# Altium schematic symbol library Transistors.SchLib: 16 symbols
Pins are listed as number, name and electrical type; pins without a type are passive.

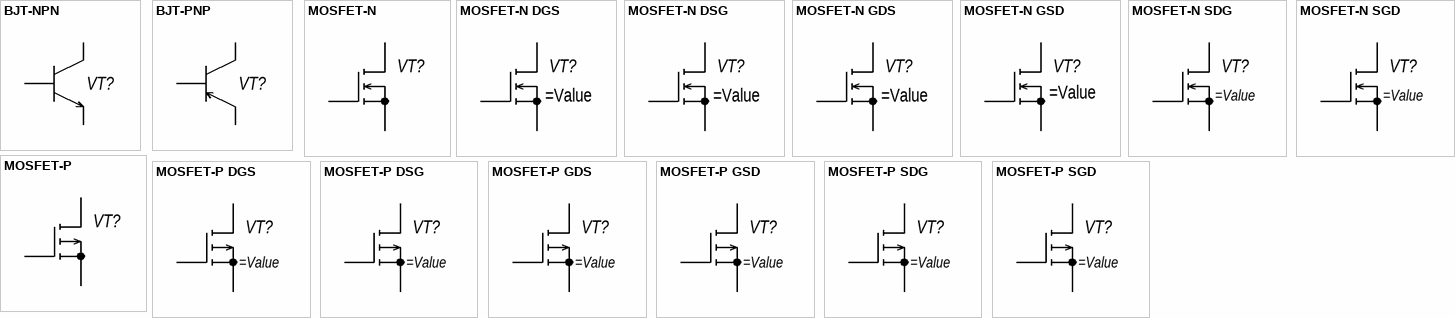
[diagram p0: symbols BJT-NPN to MOSFET-P SGD]

## BJT-NPN
designator VT?  (value not drawn)
pins: 1 B "База", 2 C "Коллектор", 3 E "Эмиттер"

## BJT-PNP
designator VT?  (value not drawn)
pins: 1 B "База", 2 C "Коллектор", 3 E "Эмиттер"

## MOSFET-N
designator VT?  (value not drawn)
pins: 1 G "Затвор", 2 D "Сток", 3 S "Исток"

## MOSFET-N DGS
designator VT?
pins: 1 D "Сток", 2 G "Затвор", 3 S "Исток"

## MOSFET-N DSG
designator VT?
pins: 1 D "Сток", 2 S "Исток", 3 G "Затвор"

## MOSFET-N GDS
designator VT?
pins: 1 G "Затвор", 2 D "Сток", 3 S "Исток"

## MOSFET-N GSD
designator VT?
pins: 1 G "Затвор", 2 S "Исток", 3 D "Сток"

## MOSFET-N SDG
designator VT?
pins: 1 S "Исток", 2 D "Сток", 3 G "Затвор"

## MOSFET-N SGD
designator VT?
pins: 1 S "Исток", 2 G "Затвор", 3 D "Сток"

## MOSFET-P
designator VT?  (value not drawn)
pins: 1 G "Затвор", 2 D "Сток", 3 S "Исток"

## MOSFET-P DGS
designator VT?
pins: 1 D "Сток", 2 G "Затвор", 3 S "Исток"

## MOSFET-P DSG
designator VT?
pins: 1 D "Сток", 2 S "Исток", 3 G "Затвор"

## MOSFET-P GDS
designator VT?
pins: 1 G "Затвор", 2 D "Сток", 3 S "Исток"

## MOSFET-P GSD
designator VT?
pins: 1 G "Затвор", 2 S "Исток", 3 D "Сток"

## MOSFET-P SDG
designator VT?
pins: 1 S "Исток", 2 D "Сток", 3 G "Затвор"

## MOSFET-P SGD
designator VT?
pins: 1 S "Исток", 2 G "Затвор", 3 D "Сток"